# Altium schematic symbol library Motor.SchLib: 2 symbols
Pins are listed as number, name and electrical type; pins without a type are passive.

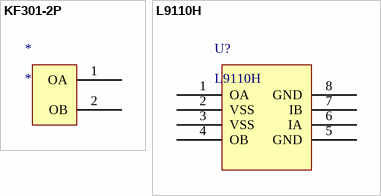
[diagram p0: symbols KF301-2P to L9110H]

## KF301-2P
designator *
footprint DIP2
pins: 1 OA, 2 OB

## L9110H
designator U?
footprint DIP8
pins: 1 OA, 2 VSS, 3 VSS, 4 OB, 5 GND, 6 IA, 7 IB, 8 GND